# Altium footprint library trafo_ster.PcbLib: 1 footprints
Each footprint in its own frame and in the unit in brackets; x right, y up, seen from the top. Pads: shape width x height; smd on the part's side, far side on the other; paste and mask are expansions set on the pad; w line width, h text height; cw(c..) or ccw(c..) is an arc to the next point about the centre after c.
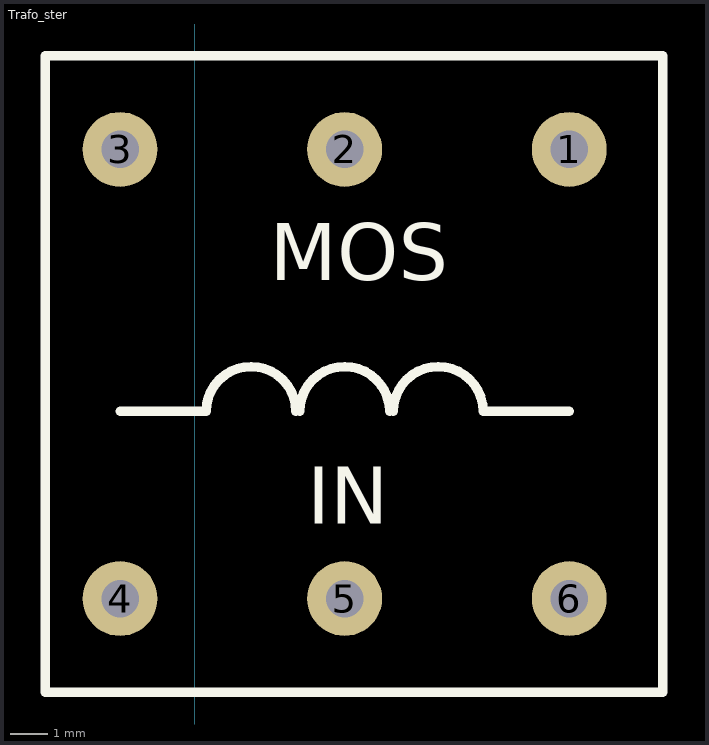
[diagram p0: the footprint, top view; thin cyan lines are the x and y axes]

## Trafo_ster [mm]
height 30
pads (6):
  round 2 hole 1: 1(10,25) 2(4,25) 3(-2,25) 4(-2,13) 5(4,13) 6(10,13)
Top Overlay:
  lines w0.254: -2,18 0.3,18 cw(c1.5,18) 2.7,18 ; 2.8,18 cw(c4,18) 5.2,18 ; 5.3,18 cw(c6.5,18) 7.7,18 10,18 ; -4,10.5 12.5,10.5 12.5,27.5 -4,27.5 -4,10.5
  text "IN" at 3,15 h1.52
  text "MOS" at 2,21.5 h1.52